# Altium schematic symbol library Buffer.SchLib: 1 symbol
Pins are listed as number, name and electrical type; pins without a type are passive.

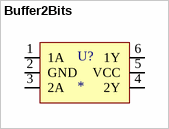
[diagram p0: symbol Buffer2Bits]

## Buffer2Bits
designator U?
Buffer 2Bits; Digi-Key Part Number: *
footprint DCK R_PDSO-G6
pins: 1 1A, 2 GND, 3 2A, 4 2Y, 5 VCC, 6 1Y